# Altium schematic symbol library SCH - POWER - LINEAR VREG - TI TPS77501_D_8.SchLib: 1 symbol
Pins are listed as number, name and electrical type; pins without a type are passive.

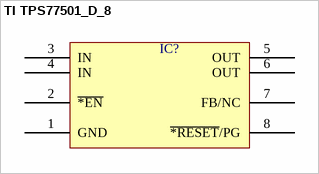
[diagram p0: symbol TI TPS77501_D_8]

## TI TPS77501_D_8
designator IC?  (value not drawn)
pins: 1 GND, 2 ~{*EN}, 3 IN, 4 IN, 5 OUT, 6 OUT, 7 FB/NC, 8 ~{*RESET}/PG